# Altium footprint library Crystals, Oscillators, Resonators.PcbLib: 8 footprints
Each footprint in its own frame and in the unit in brackets; x right, y up, seen from the top. Pads: shape width x height; smd on the part's side, far side on the other; paste and mask are expansions set on the pad; w line width, h text height; cw(c..) or ccw(c..) is an arc to the next point about the centre after c.
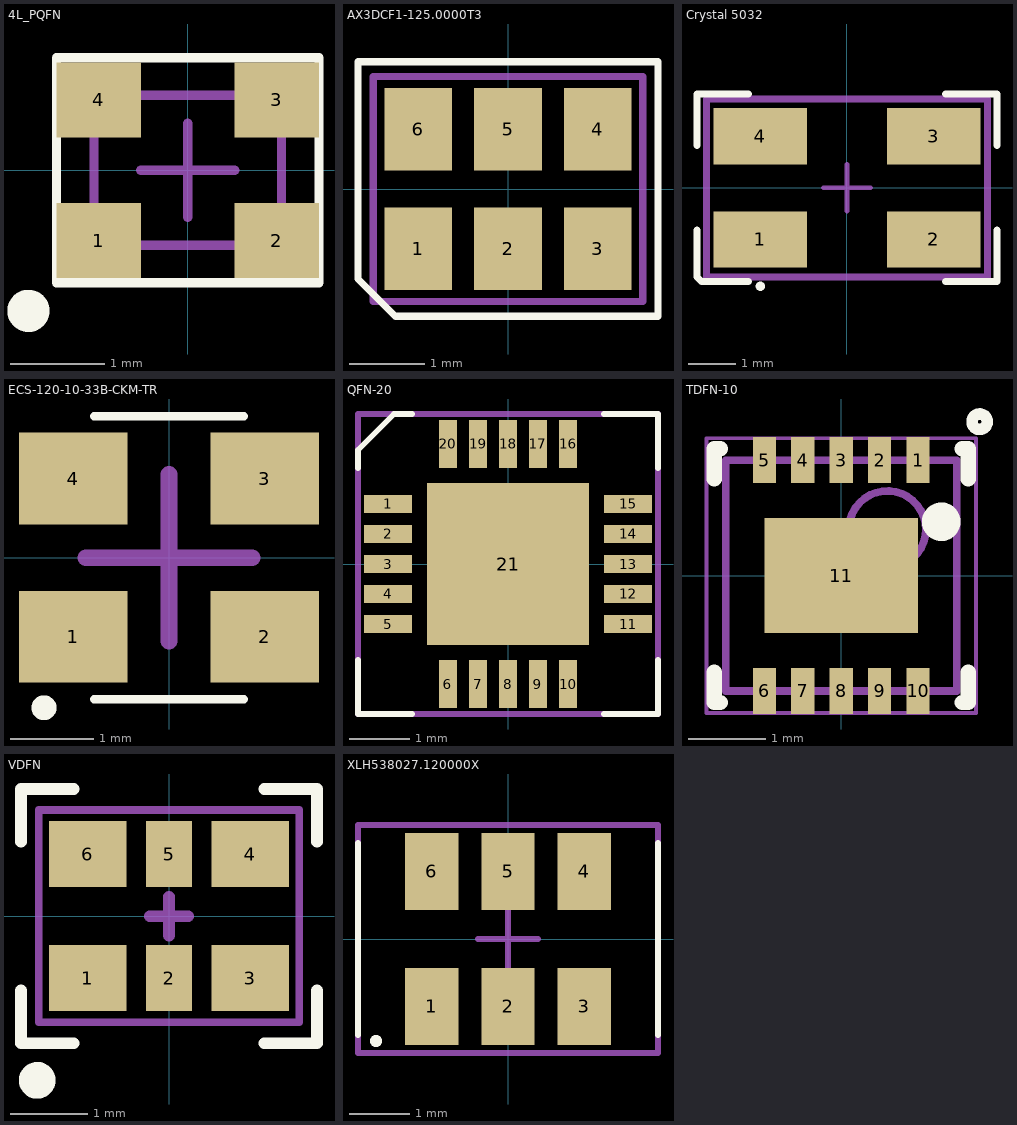
[diagram p0: the footprints below, top view; thin cyan lines are the x and y axes]

## 4L_PQFN [mm] "2.0X2.5X0.75 mm"
height 0.75
pads (4):
  rect 0.9x0.8 smd: 1(-0.95,-0.75) 2(0.95,-0.75) 3(0.95,0.75) 4(-0.95,0.75)
Top Overlay:
  circle w0.25: c-1.7,-1.5 r0.1
  lines w0.1: -1.4,-1.2 1.4,-1.2 1.4,1.2 -1.4,1.2 -1.4,-1.2
Mechanical 15:
  lines w0.1: -0.5,0 0.5,0 ; 0,-0.5 0,0.5 ; -1,-0.8 -1,0.8 1,0.8 1,-0.8 -1,-0.8 ; 0,0 0,0

## AX3DCF1-125.0000T3 [mm] "AX3DCF1-125.0000T3"
pads (6):
  rect 0.9x1.1 smd: 1(-1.2,-0.8) 2(0,-0.8) 3(1.2,-0.8) 4(1.2,0.8) 5(0,0.8) 6(-1.2,0.8)
Top Overlay:
  lines w0.1: -2,-1.2 -1.5,-1.7 2,-1.7 2,1.7 -2,1.7 -2,-1.2
Mechanical 15:
  lines w0.1: -1.8,-1.5 1.8,-1.5 1.8,1.5 -1.8,1.5 -1.8,-1.5
3D body "User Library-DFN-6 3_2x2_5.STEP": height 0.87, standoff 0.02, extent -1.6,-1.25 1.6,1.25

## Crystal 5032 [mm]
pads (4):
  rect 2x1.2 smd: 1(-1.85,-1.1) 2(1.85,-1.1) 3(1.85,1.1) 4(-1.85,1.1)
Top Overlay:
  circle w0.1: c-1.85,-2.1 r0.05
  lines w0.15: -3.2,-0.9 -3.2,-1.9 -3.1,-2 -2.1,-2 ; -3.2,0.9 -3.2,2 -2.1,2 ; 2.1,-2 3.2,-2 3.2,-0.9 ; 2.1,2 3.2,2 3.2,0.9
Mechanical 15:
  lines w0.1: -0.5,0 0.5,0 ; 0,-0.5 0,0.5
  lines w0.15: -3,-1.9 -3,1.9 3,1.9 3,-1.9 -3,-1.9
3D body "User Library-Crystal_SMD5032.step": height 0.85, standoff -0.01, extent -2.5,-1.6 2.443,1.6

## ECS-120-10-33B-CKM-TR [mm]
pads (4):
  rect 1.3x1.1 smd mask+0.05: 1(-1.15,-0.95) 2(1.15,-0.95) 3(1.15,0.95) 4(-1.15,0.95)
Top Overlay:
  circle w0.2: c-1.5,-1.8 r0.05
  lines w0.1: -0.9,-1.7 0.9,-1.7 ; -0.9,1.7 0.9,1.7
Mechanical 15:
  lines w0.2: -1,0 1,0 ; 0,-1 0,1
3D body "ECS-120-10-33B-CKM-TR.step": height 0.8, standoff 0, extent -1.6,-1.25 1.6,1.25

## QFN-20 [mm]
pads (21):
  rect 0.8x0.3 smd mask+0.05: 1(-2,1) 2(-2,0.5) 3(-2,0) 4(-2,-0.5) 5(-2,-1) 11(2,-1) 12(2,-0.5) 13(2,0) 14(2,0.5) 15(2,1)
  rect 0.3x0.8 smd mask+0.05: 6(-1,-2) 7(-0.5,-2) 8(0,-2) 9(0.5,-2) 10(1,-2) 16(1,2) 17(0.5,2) 18(0,2) 19(-0.5,2) 20(-1,2)
  rect 2.7x2.7 smd mask+0.05: 21(0,0)
Top Overlay:
  lines w0.1: -2.5,-1.6 -2.5,-2.5 -1.6,-2.5 ; -2.5,1.6 -2.5,1.9 -1.9,2.5 -1.6,2.5 ; 1.6,-2.5 2.5,-2.5 2.5,-1.6 ; 1.6,2.5 2.5,2.5 2.5,1.6
Mechanical 15:
  lines w0.1: -0.5,0 0.5,0 ; 0,-0.5 0,0.5 ; -2.5,-2.5 -2.5,2.5 2.5,2.5 2.5,-2.5 -2.5,-2.5
3D body "User Library-QFN20_4x4x0_8.step": height 0.78, standoff -0.02, extent -2.01,-2.01 2.01,2.01

## TDFN-10 [mm]
height 0.8
pads (11):
  rect 0.3x0.6 smd mask+0.05: 1(1,1.5) 2(0.5,1.5) 3(0,1.5) 4(-0.5,1.5) 5(-1,1.5) 6(-1,-1.5) 7(-0.5,-1.5) 8(0,-1.5) 9(0.5,-1.5) 10(1,-1.5)
  rect 2x1.5 smd mask+0.05: 11(0,0)
Top Overlay:
  circle w0.3: c1.3,0.7 r0.1
  circle w0.15: c1.8,2 r0.1
  lines w0.2: -1.65,-1.255 -1.65,-1.65 -1.575,-1.65 ; -1.65,1.255 -1.65,1.65 -1.575,1.65 ; 1.575,-1.65 1.65,-1.65 1.65,-1.255 ; 1.575,1.65 1.65,1.65 1.65,1.255
Mechanical 13:
  circle w0.1: c0.6,0.6 r0.5
  lines w0.1: -1.5,-1.5 -1.5,1.5 1.5,1.5 1.5,-1.5 -1.5,-1.5
Mechanical 15:
  lines w0.05: -1.75,-1.785 -1.75,1.785 1.75,1.785 1.75,-1.785 -1.75,-1.785
  lines w0.1: -0.5,0 0.5,0 ; 0,-0.5 0,0.5
3D body "PSON50P300X80_HS-11N.step": height 0.8, standoff 0, extent -1.5,-1.501 1.5,1.501

## VDFN [mm]
height 0.9
pads (6):
  rect 1x0.85 smd: 1(-1.05,-0.8) 3(1.05,-0.8) 4(1.05,0.8) 6(-1.05,0.8)
  rect 0.6x0.85 smd: 2(0,-0.8) 5(0,0.8)
Top Overlay:
  circle w0.25: c-1.7,-2.12 r0.112
  lines w0.15: -1.91,-0.96 -1.91,-1.64 -1.23,-1.64 ; -1.91,0.96 -1.91,1.64 -1.23,1.64 ; 1.23,-1.64 1.91,-1.64 1.91,-0.96 ; 1.23,1.64 1.91,1.64 1.91,0.96
Mechanical 15:
  lines w0.1: -1.68,-1.37 1.68,-1.37 1.68,1.37 -1.68,1.37 -1.68,-1.37
  lines w0.15: -0.25,0 0.25,0 ; 0,-0.25 0,0.25
3D body "User Library-DFN-6 3_2x2_5.STEP": height 0.82, standoff -0.03, extent -1.593,-1.245 1.607,1.255

## XLH538027.120000X [mm]
pads (6):
  rect 0.89x1.29 smd mask+0.05: 1(-1.27,-1.125) 2(0,-1.125) 3(1.27,-1.125) 4(1.27,1.125) 5(0,1.125) 6(-1.27,1.125)
Top Overlay:
  circle w0.1: c-2.2,-1.7 r0.05
  lines w0.1: -2.5,-1.6 -2.5,1.6 ; 2.5,-1.6 2.5,1.6
Mechanical 15:
  lines w0.1: -0.5,0 0.5,0 ; 0,-0.5 0,0.5 ; -2.5,-1.9 -2.5,1.9 2.5,1.9 2.5,-1.9 -2.5,-1.9
3D body "User Library-SG_5032_EPSON.step": height 1, standoff 0, extent -2.5,-1.6 2.5,1.6